# Altium schematic symbol library LM2576S-5.0.SchLib: 1 symbol
Pins are listed as number, name and electrical type; pins without a type are passive.

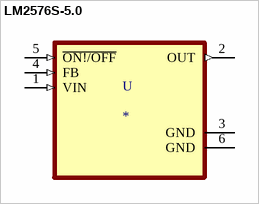
[diagram p0: symbol LM2576S-5.0]

## LM2576S-5.0
designator U
SIMPLE SWITCHER&#174; 40V, 3A Low Component Count Step-Down Regulator; MF: Texas Instruments; MP: LM2576S-5.0/NOPB; Price: None; Texas_Instruments-Purchase-URL: https://snapeda.com/shop?store=Texas+Instruments&id=227071; Availability: Unavailable; SnapEDA_Link: https://www.snapeda.com/parts/LM2576S-5.0/NOPB/Texas%20Instruments/view-part/227071/?ref=snap; Mouser-Purchase-URL: https://snapeda.com/shop?store=Mouser&id=227071; Value: *; Package: TO-263-5 Texas Instruments; DigiKey-Purchase-URL: https://snapeda.com/shop?store=DigiKey&id=227071
footprint VREG_TPS79625KTTR
pins: 1 VIN (in), 2 OUT (out), 3 GND (power), 4 FB (in), 5 ~{ON!/OFF} (in), 6 GND (power)